# Altium footprint library SnapEDApcb.PcbLib: 1 footprints
Each footprint in its own frame and in the unit in brackets; x right, y up, seen from the top. Pads: shape width x height; smd on the part's side, far side on the other; paste and mask are expansions set on the pad; w line width, h text height; cw(c..) or ccw(c..) is an arc to the next point about the centre after c.
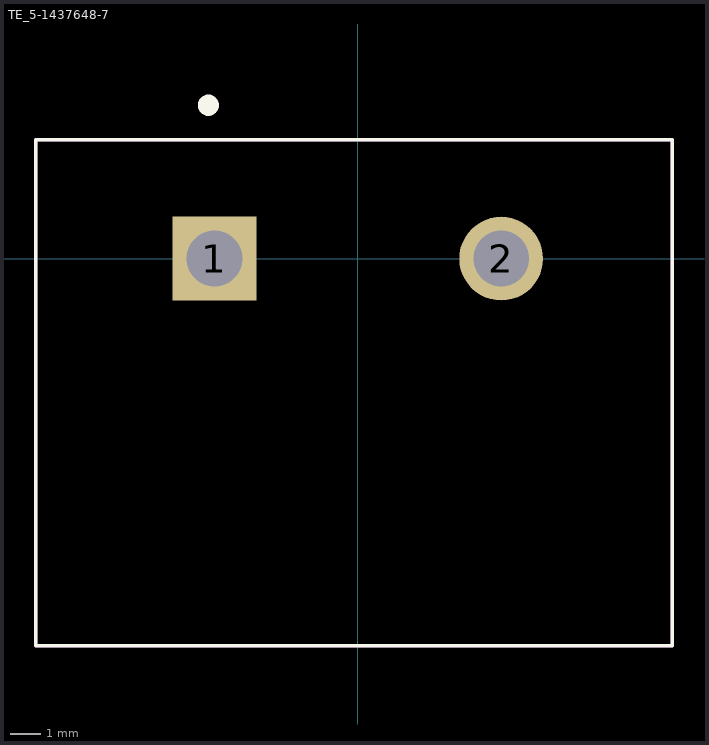
[diagram p0: the footprint, top view; thin cyan lines are the x and y axes]

## TE_5-1437648-7 [mm]
pads (2):
  rect 2.775x2.775 hole 1.85: 1(-4.75,0)
  round 2.775 hole 1.85: 2(4.75,0)
Top Overlay:
  circle w0.5: c-4.953,5.08 r0.1
  lines w0.127: -10.668,-12.827 10.414,-12.827 10.414,3.937 -10.668,3.937 -10.668,-12.827
Mechanical 13:
  circle w0.2: c-4.953,5.08 r0.1
  lines w0.127: -10.668,-12.827 10.414,-12.827 10.414,3.937 -10.668,3.937 -10.668,-12.827
Mechanical 15:
  lines w0.05: -10.668,-12.827 -10.668,3.937 10.414,3.937 10.414,-12.827 -10.668,-12.827
3D body "hb9500_asm.stp": height 20.84, standoff -4.2, extent -10.44,-12.545 10.16,3.655